# EAGLE library part LM2267_123 (library LM2267_123)
LM2267x X may be either the 1, 2, or 3 versions.
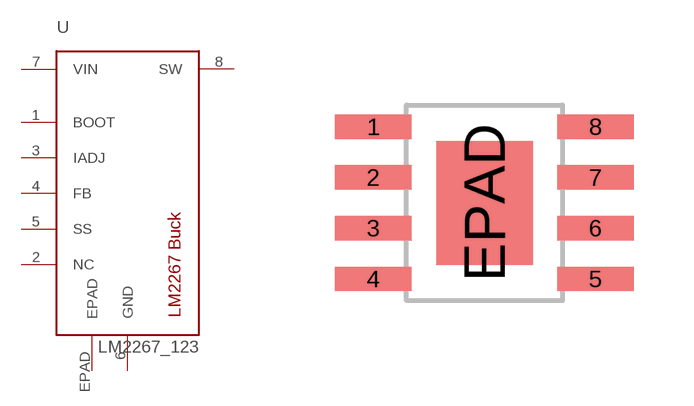
[diagram p0: symbol with the pads of DDA0008B; footprint DDA0008B]

Designator prefix -

## LM2267_123  [DDA0008B]
1  BOOT  pwr
2  NC  nc
3  IADJ  in
4  FB  in
5  SS  in
6  GND  pwr
7  VIN  pwr
8  SW  pwr
EPAD  EPAD  pwr

## Footprint DDA0008B (pad centres in mm)
smd 1.91 x 0.61: 1 -2.78,1.905; 2 -2.78,0.635; 3 -2.78,-0.635; 4 -2.78,-1.905; 5 2.78,-1.905; 6 2.78,-0.635; 7 2.78,0.635; 8 2.78,1.905
smd 2.41 x 3.1: EPAD 0,0